# Altium footprint library AD5541ARZ.PcbLib: 3 footprints
Each footprint in its own frame and in the unit in brackets; x right, y up, seen from the top. Pads: shape width x height; smd on the part's side, far side on the other; paste and mask are expansions set on the pad; w line width, h text height; cw(c..) or ccw(c..) is an arc to the next point about the centre after c.
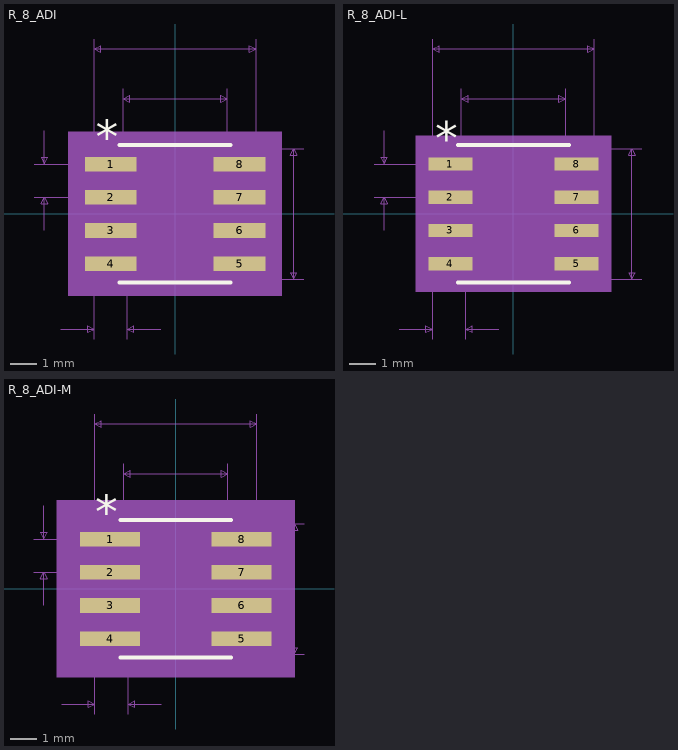
[diagram p0: the footprints below, top view; thin cyan lines are the x and y axes]

## R_8_ADI [mil]
pads (8):
  rect 78x22 smd paste+0 mask+0: 1(-97,75) 2(-97,25) 3(-97,-25) 4(-97,-75) 5(97,-75) 6(97,-25) 7(97,25) 8(97,75)
Top Overlay:
  lines w6: -83.5,-103.5 83.5,-103.5 ; -83.5,103.5 83.5,103.5
  text "*" at -119.5,92 h50
Mechanical 5:
  region: 161,-123.5 -161,-123.5 -161,123.5 161,123.5
Mechanical 7:
  lines w1: -212,25 -97,25 ; -212,75 -97,75 ; -197,-25 -197,25 ; -197,125 -197,75 ; -172,-173.5 -122,-173.5 ; -122,-188.5 -122,0 -122,263.5 ; -78.5,0 -78.5,188.5 ; -72,-188.5 -72,0 ; -22,-173.5 -72,-173.5 ; 0,-98.5 193.5,-98.5 ; 0,98.5 193.5,98.5 ; 78.5,0 78.5,188.5 ; 122,0 122,263.5 ; -197,25 -192,15 -202,15 -197,25 ; -197,75 -192,85 -202,85 -197,75 ; -122,-173.5 -132,-178.5 -132,-168.5 -122,-173.5 ; -122,248.5 -112,243.5 -112,253.5 -122,248.5 ; -122,248.5 122,248.5 ; -78.5,173.5 -68.5,168.5 -68.5,178.5 -78.5,173.5 ; -78.5,173.5 78.5,173.5 ; -72,-173.5 -62,-178.5 -62,-168.5 -72,-173.5 ; 78.5,173.5 68.5,168.5 68.5,178.5 78.5,173.5 ; 122,248.5 112,243.5 112,253.5 122,248.5 ; 178.5,-98.5 183.5,-88.5 173.5,-88.5 178.5,-98.5 ; 178.5,-98.5 178.5,98.5 ; 178.5,98.5 183.5,88.5 173.5,88.5 178.5,98.5
  text "0.05in/1.27mm" at -178.25,-218.5 h25
  text "0.05in/1.27mm" at -379.5,37.5 h25
  text "0.197in/5.004mm" at 198.5,-12.5 h25
  text "0.244in/6.198mm" at -93.75,268.5 h25
  text "0.157in/3.988mm" at -93.75,193.5 h25
  text "Alt 2 Padstyle: OX90Y60D30P" at -337.5,-598.5 h50
  text "Alt 1 Padstyle: OX60Y90D30P" at -337.5,-538.5 h50
  text "Pin One Padstyle: RX78Y22D0T" at -350,-358.5 h50
  text "Default Padstyle: RX78Y22D0T" at -350,-298.5 h50
Mechanical 13:
  lines w0: -12,98.5 ccw(c0,98.5) 12,98.5
  lines w1: -122,-85 -78.5,-85 -78.5,-65 -122,-65 -122,-85 ; -122,-35 -78.5,-35 -78.5,-15 -122,-15 -122,-35 ; -122,15 -78.5,15 -78.5,35 -122,35 -122,15 ; -122,65 -78.5,65 -78.5,85 -122,85 -122,65 ; -78.5,-98.5 -78.5,98.5 78.5,98.5 78.5,-98.5 -78.5,-98.5 ; 78.5,-85 122,-85 122,-65 78.5,-65 78.5,-85 ; 78.5,-35 122,-35 122,-15 78.5,-15 78.5,-35 ; 78.5,15 122,15 122,35 78.5,35 78.5,15 ; 78.5,65 122,65 122,85 78.5,85 78.5,65
  text "*" at -76,45.5 h50
Mechanical 15:
  region: -88.5,-96 -146,-96 -146,96 -88.5,96 -88.5,108.5 88.5,108.5 88.5,96 146,96 146,-96 88.5,-96 88.5,-108.5 -88.5,-108.5
  lines w6: -146,-96 -88.5,-96 -88.5,-108.5 88.5,-108.5 88.5,-96 146,-96 146,96 88.5,96 88.5,108.5 -88.5,108.5 -88.5,96 -146,96 -146,-96
3D body "R_8_ADI.step": height 69.09, standoff 0, extent -122.01,-98.5 122.01,98.5

## R_8_ADI-L [mil]
pads (8):
  rect 66x20 smd paste+0 mask+0: 1(-95,75) 2(-95,25) 3(-95,-25) 4(-95,-75) 5(95,-75) 6(95,-25) 7(95,25) 8(95,75)
Top Overlay:
  lines w6: -83.5,-103.5 83.5,-103.5 ; -83.5,103.5 83.5,103.5
  text "*" at -117.5,90 h50
Mechanical 5:
  region: 147,-117.5 -147,-117.5 -147,117.5 147,117.5
Mechanical 7:
  lines w1: -210,25 -95,25 ; -210,75 -95,75 ; -195,-25 -195,25 ; -195,125 -195,75 ; -172,-173.5 -122,-173.5 ; -122,-188.5 -122,0 -122,263.5 ; -78.5,0 -78.5,188.5 ; -72,-188.5 -72,0 ; -22,-173.5 -72,-173.5 ; 0,-98.5 193.5,-98.5 ; 0,98.5 193.5,98.5 ; 78.5,0 78.5,188.5 ; 122,0 122,263.5 ; -195,25 -200,15 -190,15 -195,25 ; -195,75 -200,85 -190,85 -195,75 ; -122,-173.5 -132,-168.5 -132,-178.5 -122,-173.5 ; -122,248.5 122,248.5 ; -122,248.5 -112,253.5 -112,243.5 -122,248.5 ; -78.5,173.5 78.5,173.5 ; -78.5,173.5 -68.5,178.5 -68.5,168.5 -78.5,173.5 ; -72,-173.5 -62,-168.5 -62,-178.5 -72,-173.5 ; 78.5,173.5 68.5,178.5 68.5,168.5 78.5,173.5 ; 122,248.5 112,253.5 112,243.5 122,248.5 ; 178.5,-98.5 178.5,98.5 ; 178.5,-98.5 173.5,-88.5 183.5,-88.5 178.5,-98.5 ; 178.5,98.5 173.5,88.5 183.5,88.5 178.5,98.5
  text "Default Padstyle: RX66Y20D0T" at -350,-298.5 h50
  text "Pin One Padstyle: RX66Y20D0T" at -350,-358.5 h50
  text "Alt 1 Padstyle: OX60Y90D30P" at -337.5,-538.5 h50
  text "Alt 2 Padstyle: OX90Y60D30P" at -337.5,-598.5 h50
  text "0.157in/3.988mm" at -93.75,193.5 h25
  text "0.244in/6.198mm" at -93.75,268.5 h25
  text "0.197in/5.004mm" at 198.5,-12.5 h25
  text "0.05in/1.27mm" at -377.5,37.5 h25
  text "0.05in/1.27mm" at -178.25,-218.5 h25
Mechanical 13:
  lines w0: -12,98.5 ccw(c0,98.5) 12,98.5
  lines w1: -122,-85 -122,-65 -78.5,-65 -78.5,-85 -122,-85 ; -122,-35 -122,-15 -78.5,-15 -78.5,-35 -122,-35 ; -122,15 -122,35 -78.5,35 -78.5,15 -122,15 ; -122,65 -122,85 -78.5,85 -78.5,65 -122,65 ; -78.5,-98.5 78.5,-98.5 78.5,98.5 -78.5,98.5 -78.5,-98.5 ; 78.5,-85 78.5,-65 122,-65 122,-85 78.5,-85 ; 78.5,-35 78.5,-15 122,-15 122,-35 78.5,-35 ; 78.5,15 78.5,35 122,35 122,15 78.5,15 ; 78.5,65 78.5,85 122,85 122,65 78.5,65
  text "*" at -76,45.5 h50
Mechanical 15:
  region: -82.5,-89 -132,-89 -132,89 -82.5,89 -82.5,102.5 82.5,102.5 82.5,89 132,89 132,-89 82.5,-89 82.5,-102.5 -82.5,-102.5
  lines w6: -132,-89 -132,89 -82.5,89 -82.5,102.5 82.5,102.5 82.5,89 132,89 132,-89 82.5,-89 82.5,-102.5 -82.5,-102.5 -82.5,-89 -132,-89
3D body "R_8_ADI.step": height 69.09, standoff 0, extent -122.01,-98.5 122.01,98.5

## R_8_ADI-M [mil]
pads (8):
  rect 90x22 smd paste+0 mask+0: 1(-99,75) 2(-99,25) 3(-99,-25) 4(-99,-75) 5(99,-75) 6(99,-25) 7(99,25) 8(99,75)
Top Overlay:
  lines w6: -83.5,-103.5 83.5,-103.5 ; -83.5,103.5 83.5,103.5
  text "*" at -121.5,92 h50
Mechanical 5:
  region: 179,-133.5 -179,-133.5 -179,133.5 179,133.5
Mechanical 7:
  lines w1: -214,25 -99,25 ; -214,75 -99,75 ; -199,-25 -199,25 ; -199,125 -199,75 ; -172,-173.5 -122,-173.5 ; -122,-188.5 -122,0 -122,263.5 ; -78.5,0 -78.5,188.5 ; -72,-188.5 -72,0 ; -22,-173.5 -72,-173.5 ; 0,-98.5 193.5,-98.5 ; 0,98.5 193.5,98.5 ; 78.5,0 78.5,188.5 ; 122,0 122,263.5 ; -199,25 -204,15 -194,15 -199,25 ; -199,75 -204,85 -194,85 -199,75 ; -122,-173.5 -132,-168.5 -132,-178.5 -122,-173.5 ; -122,248.5 122,248.5 ; -122,248.5 -112,253.5 -112,243.5 -122,248.5 ; -78.5,173.5 78.5,173.5 ; -78.5,173.5 -68.5,178.5 -68.5,168.5 -78.5,173.5 ; -72,-173.5 -62,-168.5 -62,-178.5 -72,-173.5 ; 78.5,173.5 68.5,178.5 68.5,168.5 78.5,173.5 ; 122,248.5 112,253.5 112,243.5 122,248.5 ; 178.5,-98.5 178.5,98.5 ; 178.5,-98.5 173.5,-88.5 183.5,-88.5 178.5,-98.5 ; 178.5,98.5 173.5,88.5 183.5,88.5 178.5,98.5
  text "Default Padstyle: RX90Y22D0T" at -350,-298.5 h50
  text "Pin One Padstyle: RX90Y22D0T" at -350,-358.5 h50
  text "Alt 1 Padstyle: OX60Y90D30P" at -337.5,-538.5 h50
  text "Alt 2 Padstyle: OX90Y60D30P" at -337.5,-598.5 h50
  text "0.157in/3.988mm" at -93.75,193.5 h25
  text "0.244in/6.198mm" at -93.75,268.5 h25
  text "0.197in/5.004mm" at 198.5,-12.5 h25
  text "0.05in/1.27mm" at -381.5,37.5 h25
  text "0.05in/1.27mm" at -178.25,-218.5 h25
Mechanical 13:
  lines w0: -12,98.5 ccw(c0,98.5) 12,98.5
  lines w1: -122,-85 -122,-65 -78.5,-65 -78.5,-85 -122,-85 ; -122,-35 -122,-15 -78.5,-15 -78.5,-35 -122,-35 ; -122,15 -122,35 -78.5,35 -78.5,15 -122,15 ; -122,65 -122,85 -78.5,85 -78.5,65 -122,65 ; -78.5,-98.5 78.5,-98.5 78.5,98.5 -78.5,98.5 -78.5,-98.5 ; 78.5,-85 78.5,-65 122,-65 122,-85 78.5,-85 ; 78.5,-35 78.5,-15 122,-15 122,-35 78.5,-35 ; 78.5,15 78.5,35 122,35 122,15 78.5,15 ; 78.5,65 78.5,85 122,85 122,65 78.5,65
  text "*" at -76,45.5 h50
Mechanical 15:
  region: -98.5,-106 -164,-106 -164,106 -98.5,106 -98.5,118.5 98.5,118.5 98.5,106 164,106 164,-106 98.5,-106 98.5,-118.5 -98.5,-118.5
  lines w6: -164,-106 -164,106 -98.5,106 -98.5,118.5 98.5,118.5 98.5,106 164,106 164,-106 98.5,-106 98.5,-118.5 -98.5,-118.5 -98.5,-106 -164,-106
3D body "R_8_ADI.step": height 69.09, standoff 0, extent -122.01,-98.5 122.01,98.5